# EAGLE library part QFN50P400X400X100-25N (library DRV8300DRGER)
DRV8300
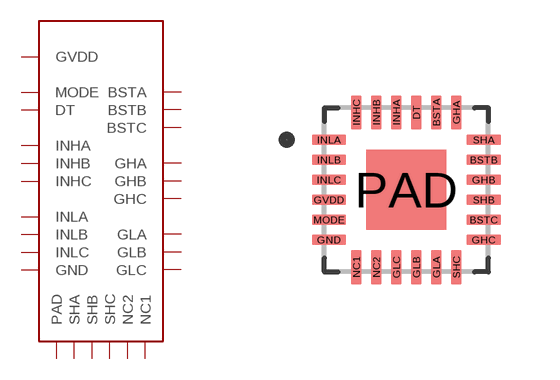
[diagram p0: symbol with the pads of QFN50P400X400X100-25N; footprint QFN50P400X400X100-25N]

Designator prefix U

## QFN50P400X400X100-25NDRV8300DRGER  [QFN50P400X400X100-25N]
BSTA  BSTA
BSTB  BSTB
BSTC  BSTC
DT  DT
GHA  GHA
GHB  GHB
GHC  GHC
GLA  GLA
GLB  GLB
GLC  GLC
GND  GND  pwr
GVDD  GVDD  pwr
INHA  INHA
INHB  INHB
INHC  INHC
INLA  INLA
INLB  INLB
INLC  INLC
MODE  MODE
NC1  NC1
NC2  NC2
PAD  PAD  pwr
SHA  SHA
SHB  SHB
SHC  SHC

## Footprint QFN50P400X400X100-25N (pad centres in mm)
smd 0.27 x 0.86: BSTA 0.75,1.935; DT 0.25,1.935; GHA 1.25,1.935; GLA 0.75,-1.935; GLB 0.25,-1.935; GLC -0.25,-1.935; INHA -0.25,1.935; INHB -0.75,1.935; INHC -1.25,1.935; NC1 -1.25,-1.935; NC2 -0.75,-1.935; SHC 1.25,-1.935
smd 0.86 x 0.27: BSTB 1.935,0.75; BSTC 1.935,-0.75; GHB 1.935,0.25; GHC 1.935,-1.25; GND -1.935,-1.25; GVDD -1.935,-0.25; INLA -1.935,1.25; INLB -1.935,0.75; INLC -1.935,0.25; MODE -1.935,-0.75; SHA 1.935,1.25; SHB 1.935,-0.25
smd 2 x 2: PAD 0,0